# Altium footprint library PcbLib1.PcbLib: 1 footprints
Each footprint in its own frame and in the unit in brackets; x right, y up, seen from the top. Pads: shape width x height; smd on the part's side, far side on the other; paste and mask are expansions set on the pad; w line width, h text height; cw(c..) or ccw(c..) is an arc to the next point about the centre after c.
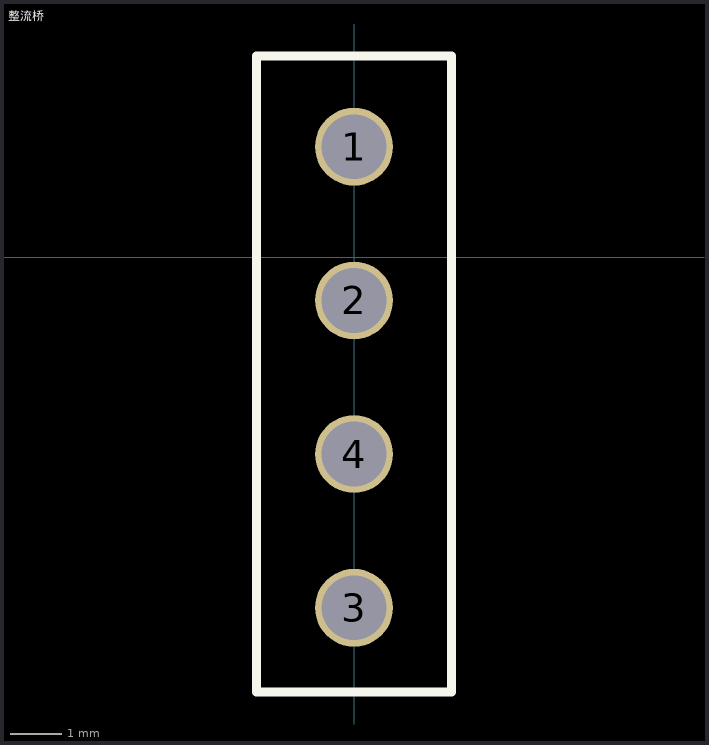
[diagram p0: the footprint, top view; thin cyan lines are the x and y axes]

## 整流桥 [mil]
pads (4):
  round 60 hole 50: 1(0,85) 2(0,-33.33) 3(0,-270) 4(0,-151.67)
Top Overlay:
  lines w7: -75,-335 75,-335 75,155 -75,155 -75,-335